# Altium footprint library UDEMY_Library.PcbLib: 35 footprints (part 3 of 3)
Each footprint in its own frame and in the unit in brackets; x right, y up, seen from the top. Pads: shape width x height; smd on the part's side, far side on the other; paste and mask are expansions set on the pad; w line width, h text height; cw(c..) or ccw(c..) is an arc to the next point about the centre after c.
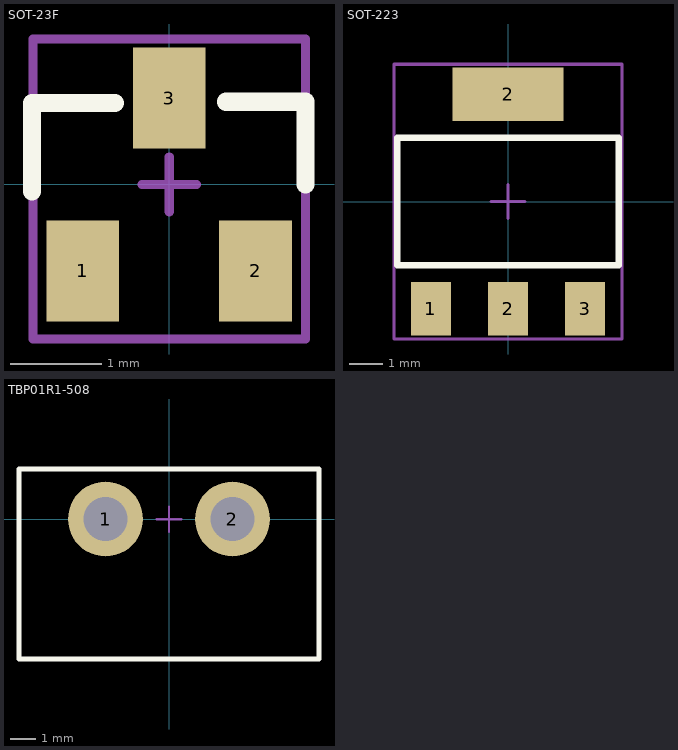
[diagram p2: the footprints below, top view; thin cyan lines are the x and y axes]

## SOT-23F [mm]
pads (3):
  rect 0.8x1.11 smd mask+0.05: 1(-0.95,-0.95) 2(0.95,-0.95) 3(0,0.95)
Top Overlay:
  lines w0.2: -1.51,-0.075 -1.51,0.896 -0.6,0.896 ; 0.625,0.91 1.5,0.91 1.5,0
Top Component Center:
  lines w0.1: -0.3,0 0.3,0 ; 0,-0.3 0,0.3 ; -1.5,-1.7 -1.5,1.6 1.5,1.6 1.5,-1.7 -1.5,-1.7
Top Designator:
  lines w0.1: -1.5,-1.7 -1.5,1.6 1.5,1.6 1.5,-1.7 -1.5,-1.7
  text "'.Designator'" at -1.5,-1 h1
3D body "SOT23-3.stp": height 1.2, standoff 0.02, extent -1.5,-1.418 1.5,1.418

## SOT-223 [mm]
pads (4):
  rect 1.2x1.6 smd mask+0.05: 1(-2.3,-3.2) 2(0,-3.2) 3(2.3,-3.2)
  rect 3.3x1.6 smd mask+0.05: 2(0,3.2)
Top Overlay:
  lines w0.2: -3.3,-1.9 -3.3,1.9 3.3,1.9 3.3,-1.9 -3.3,-1.9
Top Component Center:
  lines w0.1: -0.5,0 0.5,0 ; 0,-0.5 0,0.5 ; -3.4,-4.1 3.4,-4.1 3.4,4.1 -3.4,4.1 -3.4,-4.1
Top Designator:
  lines w0.1: -3.4,-4.1 3.4,-4.1 3.4,4.1 -3.4,4.1 -3.4,-4.1
  text "'.Designator'" at -2.3,-1.3 h1.52
3D body "CircuitWorks-SOT-223.step": height 1.69, standoff 0.01, extent -3.25,-3.48 3.25,3.48

## TBP01R1-508 [mm]
pads (2):
  round 3 hole 1.75 mask+0.05: 1(-2.54,0) 2(2.54,0)
Top Overlay:
  lines w0.2: -6,-5.6 -6,2 6,2 6,-5.6 -6,-5.6
Top Component Center:
  lines w0.1: -0.5,0 0.5,0 ; 0,-0.5 0,0.5 ; -6,-5.6 -6,2 6,2 6,-5.6 -6,-5.6
Top Designator:
  lines w0.1: -6,-5.6 -6,2 6,2 6,-5.6 -6,-5.6
  text "'.Designator'" at -3.9,-2.4 h1.52
3D body "CUI_DEVICES_TBP01R1-508-02BE.step": height 8.51, standoff -3.99, extent -5.88,-10 5.88,2